# EAGLE library part ETHERNET_CONNECTOR (library shit)
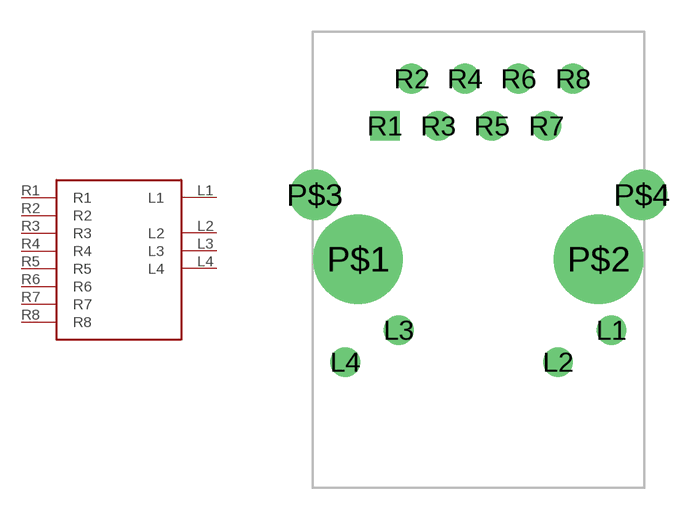
[diagram p3: symbol with the pads of RB1-125BAG1A; footprint RB1-125BAG1A]

Designator prefix -

## ETHERNET_CONNECTOR  [RB1-125BAG1A]
L1  L1
L2  L2
L3  L3
L4  L4
R1  R1
R2  R2
R3  R3
R4  R4
R5  R5
R6  R6
R7  R7
R8  R8

## Footprint RB1-125BAG1A (pad centres in mm)
drill 0.9: L1 14.2,7.51; L2 11.66,5.99; L3 4.09,7.51; L4 1.55,5.99; R2 4.7,19.475; R3 5.97,17.23; R4 7.24,19.475; R5 8.51,17.23; R6 9.78,19.475; R7 11.11,17.23; R8 12.38,19.475
drill 3.25: P$1 2.16,10.89; P$2 13.59,10.89
drill 1.6: P$3 0.1,13.94; P$4 15.65,13.94
drill 0.9 square: R1 3.43,17.23